# Altium schematic symbol library LED.SchLib: 25 symbols
Pins are listed as number, name and electrical type; pins without a type are passive.

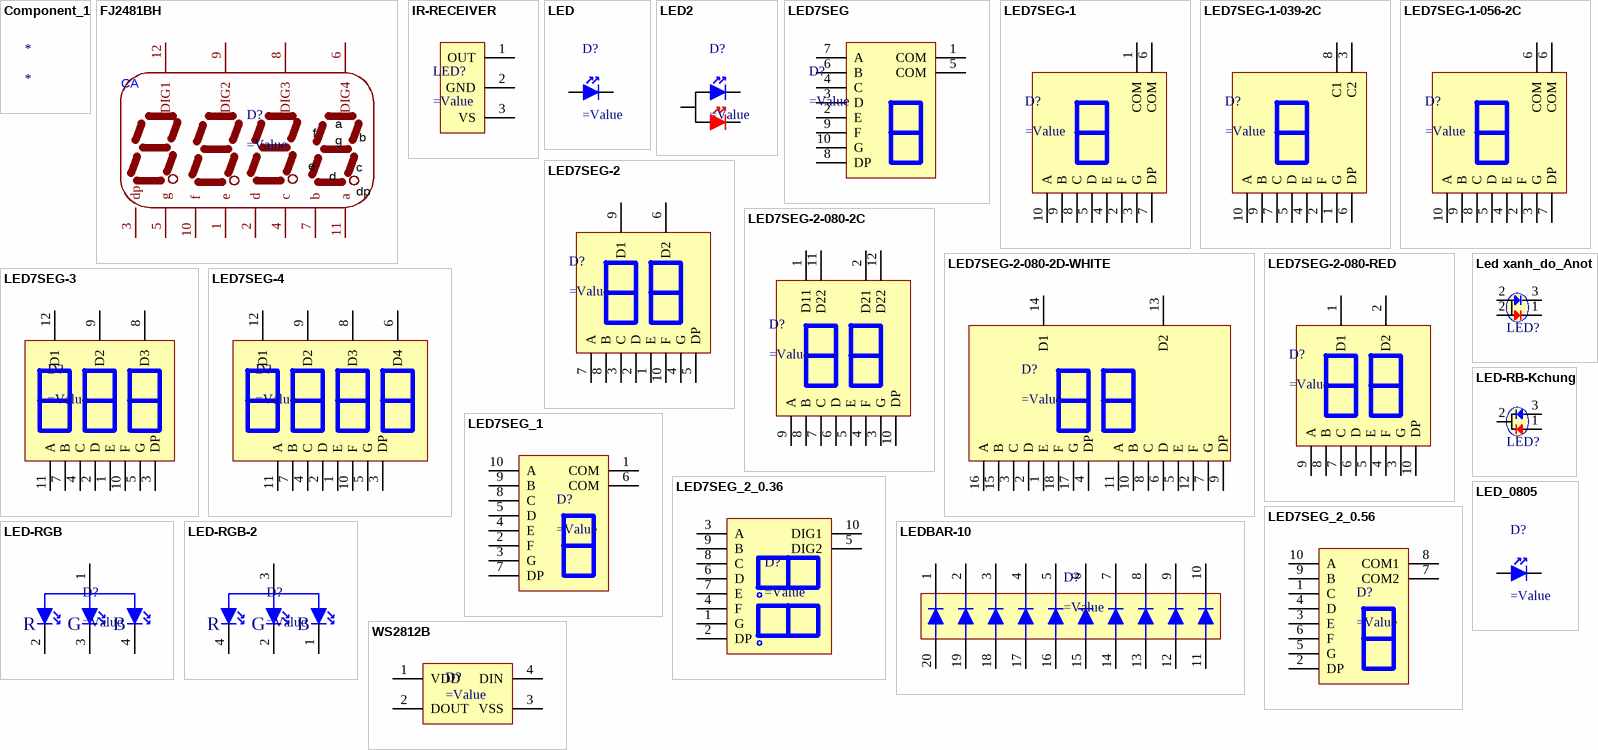
[diagram p0: symbols Component_1 to WS2812B]

## Component_1
designator *

## FJ2481BH
designator D?
=Description
pins: 1 e, 2 d, 3 dp, 4 c, 5 g, 6 DIG4, 7 b, 8 DIG3, 9 DIG2, 10 f, 11 a, 12 DIG1
text: CA

## IR-RECEIVER
designator LED?
=Description
pins: 1 OUT, 2 GND, 3 VS

## LED
designator D?
=Description
pins: 1 A, 2 K

## LED2
designator D?
=Description
pins: 1 A, 2 K1, 3 K2

## LED7SEG
designator D?
=Description
pins: 1 COM, 2 E, 3 D, 4 C, 5 COM, 6 B, 7 A, 8 DP, 9 F, 10 G

## LED7SEG-1
designator D?
=Description
pins: 1 COM, 2 F, 3 G, 4 E, 5 D, 6 COM, 7 DP, 8 C, 9 B, 10 A

## LED7SEG-1-039-2C
designator D?
=Description
pins: 1 G, 2 F, 3 C2, 4 E, 5 D, 6 DP, 7 C, 8 C1, 9 B, 10 A

## LED7SEG-1-056-2C
designator D?
=Description
pins: 2 F, 3 G, 4 E, 5 D, 6 COM, 6 COM, 7 DP, 8 C, 9 B, 10 A

## LED7SEG-2
designator D?
=Description
pins: 1 E, 2 D, 3 C, 4 G, 5 DP, 6 D2, 7 A, 8 B, 9 D1, 10 F

## LED7SEG-2-080-2C
designator D?
=Description
pins: 1 D11, 2 D21, 3 G, 4 F, 5 E, 6 D, 7 C, 8 B, 9 A, 10 DP, 11 D22, 12 D22

## LED7SEG-2-080-2D-WHITE
designator D?
=Description
pins: 1 E, 2 D, 3 C, 4 DP, 5 E, 6 D, 7 G, 8 C, 9 DP, 10 B, 11 A, 12 F, 13 D2, 14 D1, 15 B, 16 A, 17 G, 18 F

## LED7SEG-2-080-RED
designator D?
=Description
pins: 1 D1, 2 D2, 3 G, 4 F, 5 E, 6 D, 7 C, 8 B, 9 A, 10 DP

## LED7SEG-3
designator D?
=Description
pins: 1 E, 2 D, 3 DP, 4 C, 5 G, 7 B, 8 D3, 9 D2, 10 F, 11 A, 12 D1

## LED7SEG-4
designator D?
=Description
pins: 1 E, 2 D, 3 DP, 4 C, 5 G, 6 D4, 7 B, 8 D3, 9 D2, 10 F, 11 A, 12 D1

## LED7SEG_1
designator D?
=Description
pins: 1 COM, 2 F, 3 G, 4 E, 5 D, 6 COM, 7 DP, 8 C, 9 B, 10 A

## LED7SEG_2_0.36
designator D?
=Description
pins: 1 G, 2 DP, 3 A, 4 F, 5 DIG2, 6 D, 7 E, 8 C, 9 B, 10 DIG1

## LED7SEG_2_0.56
designator D?
=Description
pins: 1 C, 2 DP, 3 E, 4 D, 5 G, 6 F, 7 COM2, 8 COM1, 9 B, 10 A

## Led xanh_do_Anot
designator LED?
=Description; Part Num 1: MH005372; Des: Led 3MM 2 Mầu Anot ( Siêu Sáng); MANU 1: BanLinhKien.Vn; Type: MA; Catelogy: Diode-led; Unit: Pcs; Kieu_Chan: *
footprint LED_phi 5_Xanh_Do (LED phi 5mm 2 mau xanh va do)
footprint LED 3MM RG
pins: 1 D, 2 Katot, 2 Katot, 3 X

## LED-RB-Kchung
designator LED?
=Description; Part Num 1: MH005372; Des: Led 3MM 2 Mầu Anot ( Siêu Sáng); MANU 1: BanLinhKien.Vn; Type: MA; Catelogy: Diode-led; Unit: Pcs; Kieu_Chan: *
footprint LED_phi 5_Xanh_Do (LED phi 5mm 2 mau xanh va do)
footprint LED 3MM RG
pins: 1 D, 2 Katot, 3 X

## LED-RGB
designator D?
=Description
pins: 1 A, 2 K, 3 K, 4 K
text: R; G; B

## LED-RGB-2
designator D?
=Description
pins: 1 K, 2 K, 3 A, 4 K
text: R; G; B

## LED_0805
designator D?
=Description
pins: 1 A, 2 K

## LEDBAR-10
designator D?
=Description
pins: 1, 2, 3, 4, 5, 6, 7, 8, 9, 10, 11, 12, 13, 14, 15, 16, 17, 18, 19, 20

## WS2812B
designator D?
=Description
pins: 1 VDD, 2 DOUT, 3 VSS, 4 DIN